# Altium footprint library Hardware.PcbLib: 23 footprints (part 2 of 2)
Each footprint in its own frame and in the unit in brackets; x right, y up, seen from the top. Pads: shape width x height; smd on the part's side, far side on the other; paste and mask are expansions set on the pad; w line width, h text height; cw(c..) or ccw(c..) is an arc to the next point about the centre after c.
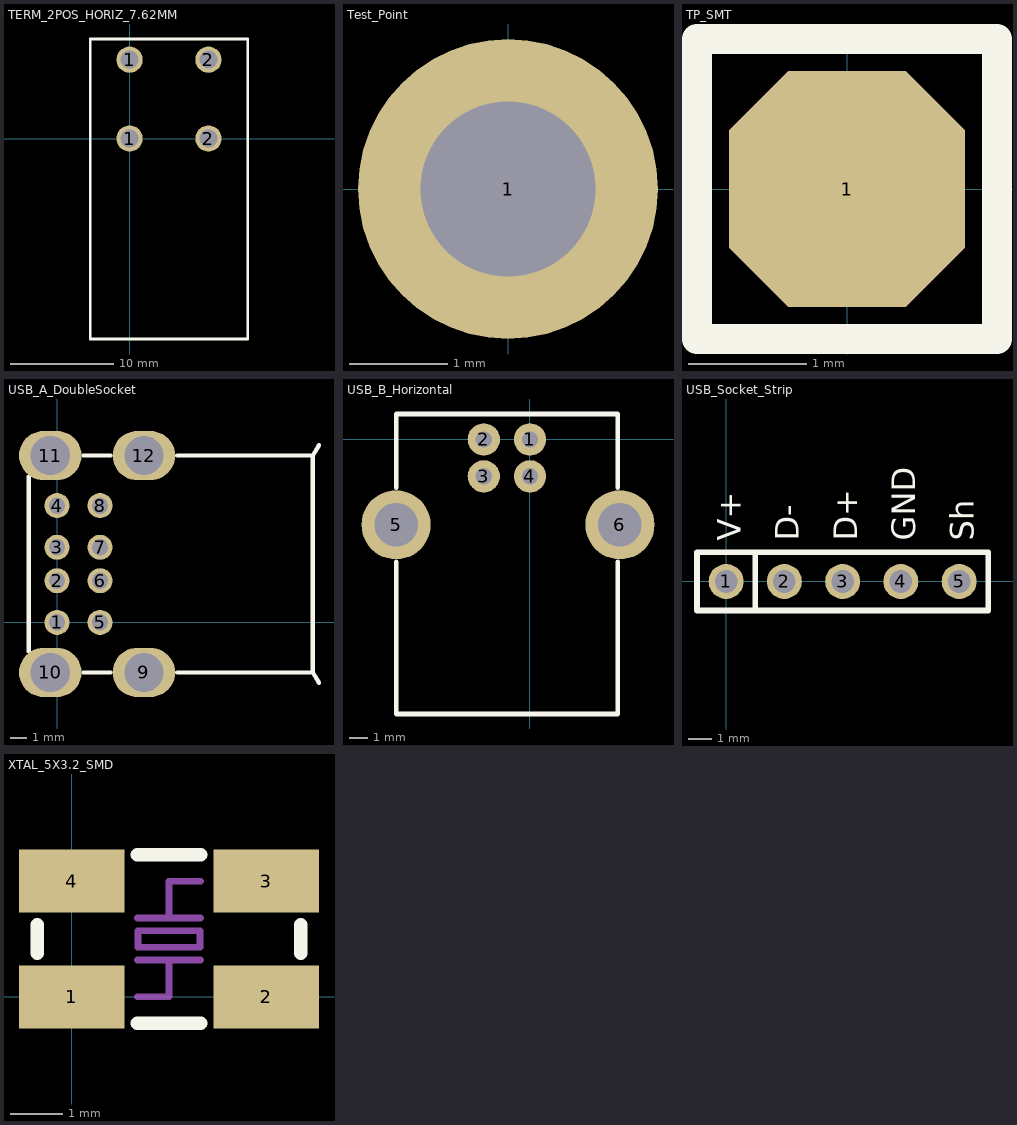
[diagram p1: the footprints below, top view; thin cyan lines are the x and y axes]

## TERM_2POS_HORIZ_7.62MM [mm]
height 13.5
pads (4):
  round 2.54 hole 1.75: 1(0,0) 1(0,7.62) 2(7.62,0) 2(7.62,7.62)
Top Overlay:
  lines w0.254: -3.81,-19.38 11.43,-19.38 11.43,9.62 7.62,9.62 0,9.62 -3.81,9.62 -3.81,-19.38

## Test_Point [mil]
pads (1):
  round 120 hole 70: 1(0,0)

## TP_SMT [mm]
pads (1):
  oct 2x2 smd: 1(0,0)
Top Overlay:
  lines w0.254: -1.27,-1.27 -1.27,0 -1.27,1.27 1.27,1.27 1.27,-1.27 -1.27,-1.27

## USB_A_DoubleSocket [mil]
pads (12):
  round 60 hole 39: 1(0,0) 2(0,100) 3(0,180) 4(0,280) 5(103.15,0) 6(103.15,100) 7(103.15,180) 8(103.15,280)
  oval 150x118.11 hole 94: 9(208.15,-120) 10(-16.26,-120) 11(-16.26,400) 12(208.15,400)
Top Overlay:
  lines w9.84: 613.15,-120 628.15,-145 ; 613.15,400 628.15,425
  lines w10: -67.95,-70 -67.95,350 ; 63.15,-120 128.15,-120 ; 63.15,400 128.15,400 ; 288.15,-120 613.15,-120 613.15,400 288.15,400

## USB_B_Horizontal [mil]
pads (6):
  round 70 hole 35: 1(0,0) 2(-100,0) 3(-100,-80) 4(0,-80)
  round 150 hole 94: 5(-290,-185) 6(195,-185)
Top Overlay:
  lines w10: -290,-265 -290,-595 190,-595 190,-265 ; -290,-105 -290,55 190,55 190,-105

## USB_Socket_Strip [mil]
pads (5):
  round 60 hole 39: 1(0,0) 2(100,0) 3(200,0) 4(300,0) 5(400,0)
Top Overlay:
  lines w9.84: -50,-50 450,-50 450,50 -50,50
  lines w10: -50,-50 -50,50 ; 50,-50 50,50
  text "Sh" at 425,70 h40
  text "GND" at 325,70 h40
  text "D+" at 225,70 h40
  text "D-" at 125,70 h40
  text "V+" at 25,70 h40

## XTAL_5X3.2_SMD [mm]
pads (4):
  rect 2x1.2 smd: 1(0,0) 2(3.7,0) 3(3.7,2.2) 4(0,2.2)
Top Overlay:
  lines w0.254: -0.65,0.83 -0.65,1.37 ; 1.25,-0.5 2.45,-0.5 ; 1.25,2.7 2.45,2.7 ; 4.35,0.83 4.35,1.37
Mechanical 5:
  lines w0.127: 1.25,0 1.85,0 1.85,0.7 ; 1.25,0.7 2.45,0.7 ; 1.25,1.5 2.45,1.5 ; 1.85,1.5 1.85,2.2 2.45,2.2 ; 1.261,0.946 2.439,0.946 2.439,1.254 1.261,1.254 1.261,0.946